# EAGLE library part WE-LAN_749020100A (library Wurth_Signal & Communications_WE-LAN)
WE-LAN LAN Transformer 1000 Base-T Characteristics Power over Ethernet up to 150 Watts and speeds up to 1 Gbit/s Available in SMD Compliant with standards: IEEE 802.3u, IEEE 802.3ab, IEEE 802.3af, IEEE 802.3at and upcoming IEEE 802.3bt Applications Suitable for industrial temperatures from –40 °C up to +125 °C Compatible to Industrial Ethernet systems like EtherCAT or Profinet Compliant with most IC’s for Ethernet applications such as Microchip, Texas Instruments, Broadcom, Linear Technology Hubs, Routers, Switches, IP cameras, IoT applications <https://katalog.we-online.com/media/images/v2/o14800v209%20WE-LAN%20-%20Kopie.jpg> Details see: https://katalog.we-online.com/en/pbs/WE-LAN Updated by Ella Wu 2019-07-17 2019 (C) Würth Elektronik
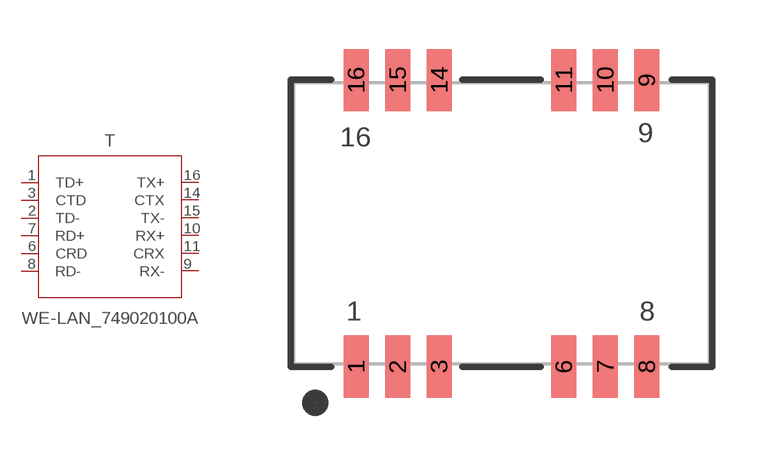
[diagram p13: symbol with the pads of WE-LAN_749020100A; footprint WE-LAN_749020100A]

Designator prefix T

## WE-LAN_749020100A (DATA-RATE: 1000 Base-T; DATASHEET-URL: https://www.we-online.com/catalog/datasheet/749020100A.pdf; HPLE: No; L: 350uH; MOUNT: SMT; PART-NUMBER: 749020100A; POE: non-PoE; PORTS: 0.5; VALUE: 749020100A; VT: 1500 V (RMS))  [WE-LAN_749020100A]
1  TD+  pas
2  TD-  pas
3  CTD  pas
6  CRD  pas
7  RD+  pas
8  RD-  pas
9  RX-  pas
10  RX+  pas
11  CRX  pas
14  CTX  pas
15  TX-  pas
16  TX+  pas

## Footprint WE-LAN_749020100A (pad centres in mm)
WE-LAN LAN Transformer 1000 Base-T
smd 0.76 x 1.9: 1 -4.445,-4.385; 2 -3.175,-4.385; 3 -1.905,-4.385; 6 1.905,-4.385; 7 3.175,-4.385; 8 4.445,-4.385; 9 4.445,4.385; 10 3.175,4.385; 11 1.905,4.385; 14 -1.905,4.385; 15 -3.175,4.385; 16 -4.445,4.385